# Altium footprint library Supply Lines.PcbLib: 20 footprints (part 2 of 2)
Each footprint in its own frame and in the unit in brackets; x right, y up, seen from the top. Pads: shape width x height; smd on the part's side, far side on the other; paste and mask are expansions set on the pad; w line width, h text height; cw(c..) or ccw(c..) is an arc to the next point about the centre after c.
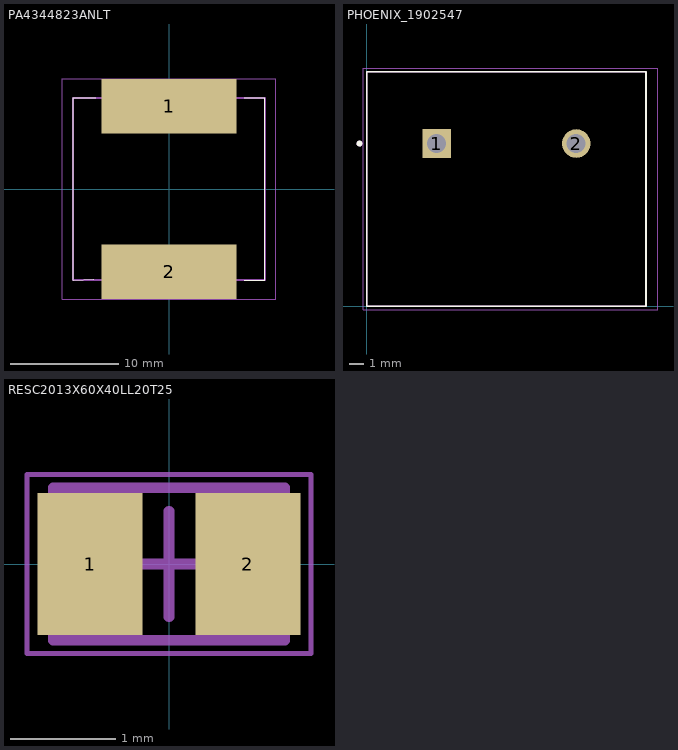
[diagram p1: the footprints below, top view; thin cyan lines are the x and y axes]

## PA4344823ANLT [mm]
pads (2):
  rect 12.5x5.08 smd: 1(0,7.675) 2(0,-7.675)
Top Overlay:
  lines w0.1: -7,-8.4 -8.9,-8.45 -8.9,8.45 -6.8,8.45 ; 7,-8.45 8.9,-8.45 8.9,8.45 7,8.45
Top Courtyard:
  lines w0.2: -8.9,-8.45 8.9,-8.45 8.9,8.45 -8.9,8.45 -8.9,-8.45
Mechanical 20:
  lines w0.1: -9.9,-10.25 9.9,-10.25 9.9,10.25 -9.9,10.25 -9.9,-10.25
3D body "PA4344.823ANLT.stp": height 8.1, standoff 0, extent -8.9,-8.935 8.9,8.935

## PCBComponent_1 [mm]

## PHOENIX_1902547 [mm]
height 21.7
pads (2):
  rect 1.95x1.95 / inner round 1.95 / far side rect 1.95x1.95 hole 1.3: 1(4.76,11.1)
  round 1.95 hole 1.3: 2(14.28,11.1)
Top Overlay:
  circle w0.2: c-0.5,11.1 r0.1
  lines w0.127: 0,0 0,16 19.04,16 19.04,0 0,0
Top Assembly:
  text ".Designator" at 9.3,7.789 h2
Top 3D Body:
  circle w0.2: c-0.5,11.1 r0.1
  lines w0.127: 0,0 0,16 19.04,16 19.04,0 0,0
Top Courtyard:
  lines w0.05: -0.25,-0.25 19.86,-0.25 19.86,16.25 -0.25,16.25 -0.25,-0.25
3D body "1902547.stp": height 21.5, standoff -5, extent -0.026,0.002 19.584,16.002

## RESC2013X60X40LL20T25 [mm] "Chip Resistor, 2-Leads, Body 2.00x1.25mm, IPC High Density"
height 0.6
pads (2):
  rect 1x1.35 smd: 1(-0.75,0) 2(0.75,0)
Top 3D Body:
  lines w0.1: -1.1,-0.725 -1.1,0.725 1.1,0.725 1.1,-0.725 -1.1,-0.725
Top Courtyard:
  lines w0.05: -1.35,-0.85 -1.35,0.85 1.35,0.85 1.35,-0.85 -1.35,-0.85
  lines w0.1: -0.5,0 0.5,0 ; 0,-0.5 0,0.5
3D body: height 0.6, standoff 0, extent -0.7,-0.725 0.7,0.725
3D body: height 0.6, standoff 0, extent -1.1,-0.725 -0.7,0.725
3D body: height 0.6, standoff 0, extent 0.7,-0.725 1.1,0.725